# EAGLE library part _UC_PIC32MX570F512H (library SamacSys_Parts)
MICROCHIP - PIC32MX570F512H-I/PT - PIC/DSPIC Microcontroller, Human Machine Interface, PIC32 Family PIC32MX Series Microcontrollers Source: Datasheet <https://componentsearchengine.com/Datasheets/1/PIC32MX570F512H-I_PT.pdf>
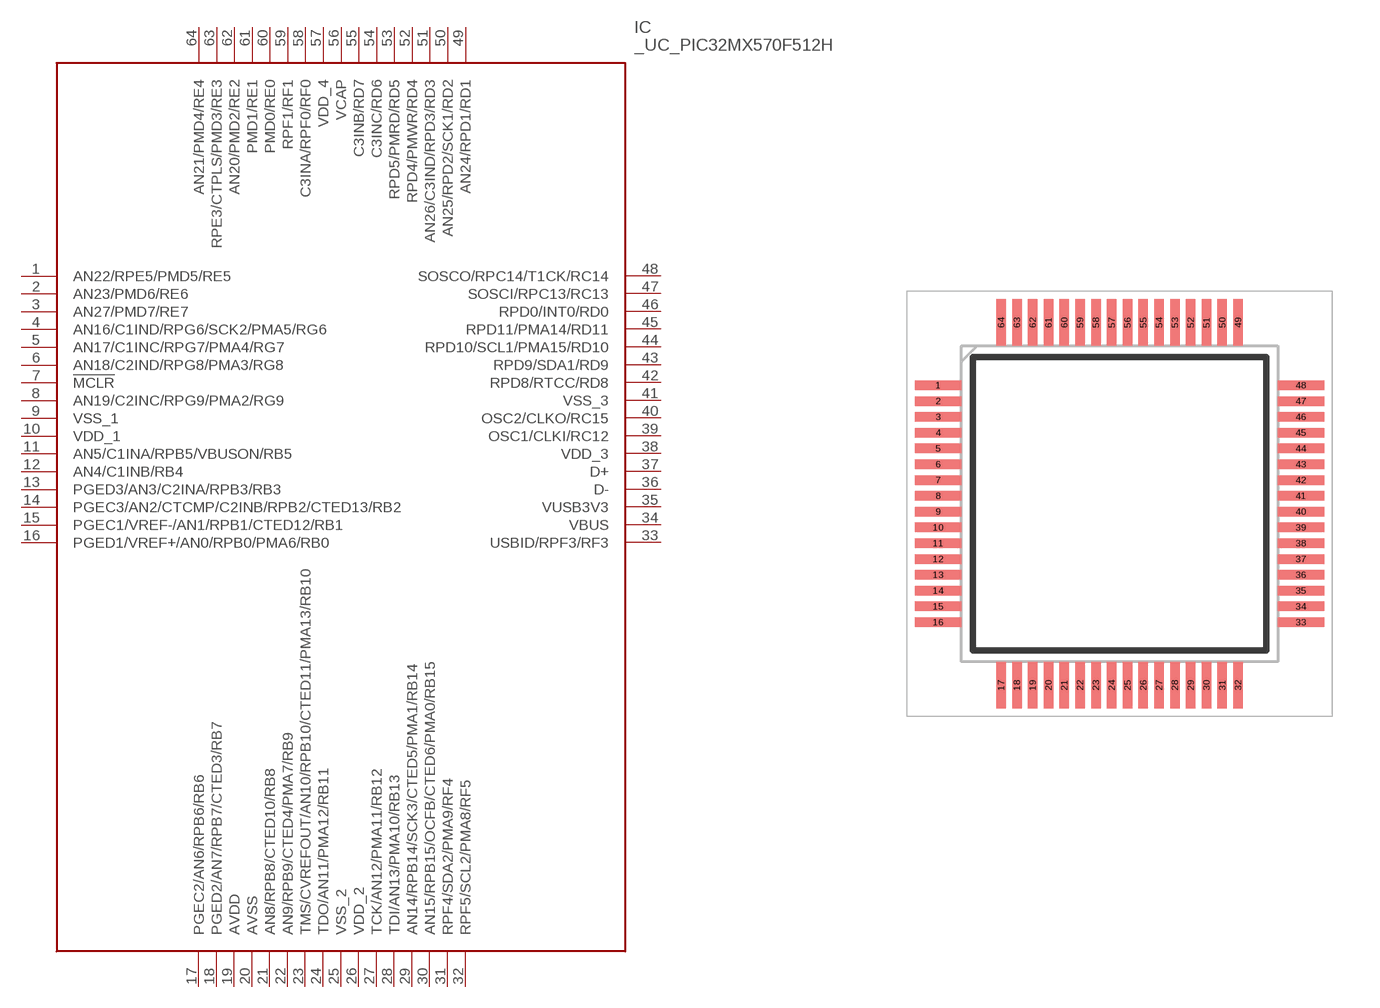
[diagram p21: symbol with the pads of QFP50P1200X1200X120-64N; footprint QFP50P1200X1200X120-64N]

Designator prefix IC

## _UC_PIC32MX570F512H (DESCRIPTION: MICROCHIP - PIC32MX570F512H-I/PT - PIC/DSPIC Microcontroller, Human Machine Interface, PIC32 Family PIC32MX Series Microcontrollers; HEIGHT: 1.2mm; MANUFACTURER_NAME: Microchip; MANUFACTURER_PART_NUMBER: PIC32MX570F512H-I/PT; MOUSER_PART_NUMBER: 579-3MX570F512H-I/PT; MOUSER_PRICE-STOCK: https://www.mouser.com/Search/Refine.aspx?Keyword=579-3MX570F512H-I%2FPT)  [QFP50P1200X1200X120-64N]
1  AN22/RPE5/PMD5/RE5
2  AN23/PMD6/RE6
3  AN27/PMD7/RE7
4  AN16/C1IND/RPG6/SCK2/PMA5/RG6
5  AN17/C1INC/RPG7/PMA4/RG7
6  AN18/C2IND/RPG8/PMA3/RG8
7  !MCLR
8  AN19/C2INC/RPG9/PMA2/RG9
9  VSS_1
10  VDD_1
11  AN5/C1INA/RPB5/VBUSON/RB5
12  AN4/C1INB/RB4
13  PGED3/AN3/C2INA/RPB3/RB3
14  PGEC3/AN2/CTCMP/C2INB/RPB2/CTED13/RB2
15  PGEC1/VREF-/AN1/RPB1/CTED12/RB1
16  PGED1/VREF+/AN0/RPB0/PMA6/RB0
17  PGEC2/AN6/RPB6/RB6
18  PGED2/AN7/RPB7/CTED3/RB7
19  AVDD
20  AVSS
21  AN8/RPB8/CTED10/RB8
22  AN9/RPB9/CTED4/PMA7/RB9
23  TMS/CVREFOUT/AN10/RPB10/CTED11/PMA13/RB10
24  TDO/AN11/PMA12/RB11
25  VSS_2
26  VDD_2
27  TCK/AN12/PMA11/RB12
28  TDI/AN13/PMA10/RB13
29  AN14/RPB14/SCK3/CTED5/PMA1/RB14
30  AN15/RPB15/OCFB/CTED6/PMA0/RB15
31  RPF4/SDA2/PMA9/RF4
32  RPF5/SCL2/PMA8/RF5
33  USBID/RPF3/RF3
34  VBUS
35  VUSB3V3
36  D-
37  D+
38  VDD_3
39  OSC1/CLKI/RC12
40  OSC2/CLKO/RC15
41  VSS_3
42  RPD8/RTCC/RD8
43  RPD9/SDA1/RD9
44  RPD10/SCL1/PMA15/RD10
45  RPD11/PMA14/RD11
46  RPD0/INT0/RD0
47  SOSCI/RPC13/RC13
48  SOSCO/RPC14/T1CK/RC14
49  AN24/RPD1/RD1
50  AN25/RPD2/SCK1/RD2
51  AN26/C3IND/RPD3/RD3
52  RPD4/PMWR/RD4
53  RPD5/PMRD/RD5
54  C3INC/RD6
55  C3INB/RD7
56  VCAP
57  VDD_4
58  C3INA/RPF0/RF0
59  RPF1/RF1
60  PMD0/RE0
61  PMD1/RE1
62  AN20/PMD2/RE2
63  RPE3/CTPLS/PMD3/RE3
64  AN21/PMD4/RE4

## Footprint QFP50P1200X1200X120-64N (pad centres in mm)
PIC32MX534F064H-I/PT
smd 1.475 x 0.3: 1 -5.738,3.75; 2 -5.738,3.25; 3 -5.738,2.75; 4 -5.738,2.25; 5 -5.738,1.75; 6 -5.738,1.25; 7 -5.738,0.75; 8 -5.738,0.25; 9 -5.738,-0.25; 10 -5.738,-0.75; 11 -5.738,-1.25; 12 -5.738,-1.75; 13 -5.738,-2.25; 14 -5.738,-2.75; 15 -5.738,-3.25; 16 -5.738,-3.75; 33 5.738,-3.75; 34 5.738,-3.25; 35 5.738,-2.75; 36 5.738,-2.25; 37 5.738,-1.75; 38 5.738,-1.25; 39 5.738,-0.75; 40 5.738,-0.25; 41 5.738,0.25; 42 5.738,0.75; 43 5.738,1.25; 44 5.738,1.75; 45 5.738,2.25; 46 5.738,2.75; 47 5.738,3.25; 48 5.738,3.75
smd 0.3 x 1.475: 17 -3.75,-5.738; 18 -3.25,-5.738; 19 -2.75,-5.738; 20 -2.25,-5.738; 21 -1.75,-5.738; 22 -1.25,-5.738; 23 -0.75,-5.738; 24 -0.25,-5.738; 25 0.25,-5.738; 26 0.75,-5.738; 27 1.25,-5.738; 28 1.75,-5.738; 29 2.25,-5.738; 30 2.75,-5.738; 31 3.25,-5.738; 32 3.75,-5.738; 49 3.75,5.738; 50 3.25,5.738; 51 2.75,5.738; 52 2.25,5.738; 53 1.75,5.738; 54 1.25,5.738; 55 0.75,5.738; 56 0.25,5.738; 57 -0.25,5.738; 58 -0.75,5.738; 59 -1.25,5.738; 60 -1.75,5.738; 61 -2.25,5.738; 62 -2.75,5.738; 63 -3.25,5.738; 64 -3.75,5.738